# Altium footprint library TCRT5000.PcbLib: 1 footprints
Each footprint in its own frame and in the unit in brackets; x right, y up, seen from the top. Pads: shape width x height; smd on the part's side, far side on the other; paste and mask are expansions set on the pad; w line width, h text height; cw(c..) or ccw(c..) is an arc to the next point about the centre after c.
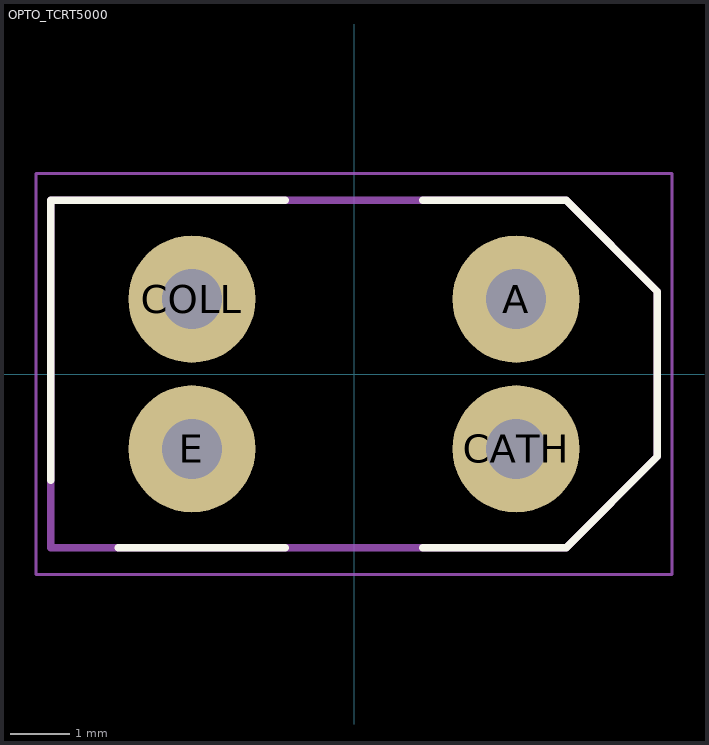
[diagram p0: the footprint, top view; thin cyan lines are the x and y axes]

## OPTO_TCRT5000 [mil]
pads (4):
  round 85 hole 40: A(108.27,50) CATH(108.27,-50) COLL(-108.27,50) E(-108.27,-50)
Top Overlay:
  lines w5: -202.76,-70.87 -202.76,116.14 -46.06,116.14 ; -157.48,-116.14 -46.06,-116.14 ; 46.06,-116.14 141.73,-116.14 202.76,-55.12 202.76,55.12 141.73,116.14 46.06,116.14
Mechanical 13:
  lines w5: -202.76,-116.14 141.73,-116.14 202.76,-55.12 202.76,55.12 141.73,116.14 -202.76,116.14 -202.76,-116.14
Mechanical 15:
  lines w1.97: -212.6,-133.86 212.6,-133.86 212.6,133.86 -212.6,133.86 -212.6,-133.86